# Altium schematic symbol library MCU.SchLib: 8 symbols
Pins are listed as number, name and electrical type; pins without a type are passive.

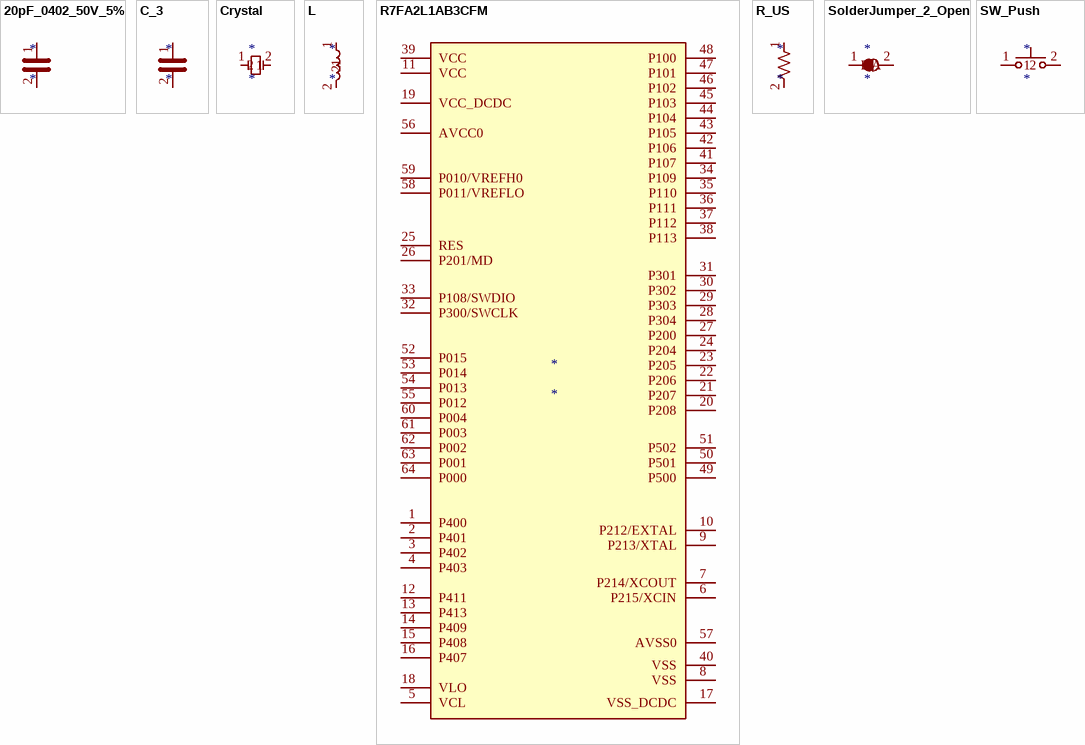
[diagram p0: symbols 20pF_0402_50V_5% to SW_Push]

## 20pF_0402_50V_5%
designator *
pins: 1, 2

## C_3
designator *
pins: 1, 2

## Crystal
designator *
pins: 1, 2

## L
designator *
pins: 1, 2

## R7FA2L1AB3CFM
designator *
pins: 1 P400, 2 P401, 3 P402, 4 P403, 5 VCL, 6 P215/XCIN, 7 P214/XCOUT, 8 VSS, 9 P213/XTAL, 10 P212/EXTAL, 11 VCC, 12 P411, 13 P413, 14 P409, 15 P408, 16 P407, 17 VSS_DCDC, 18 VLO, 19 VCC_DCDC, 20 P208, 21 P207, 22 P206, 23 P205, 24 P204, 25 RES, 26 P201/MD, 27 P200, 28 P304, 29 P303, 30 P302, 31 P301, 32 P300/SWCLK, 33 P108/SWDIO, 34 P109, 35 P110, 36 P111, 37 P112, 38 P113, 39 VCC, 40 VSS, 41 P107, 42 P106, 43 P105, 44 P104, 45 P103, 46 P102, 47 P101, 48 P100, 49 P500, 50 P501, 51 P502, 52 P015, 53 P014, 54 P013, 55 P012, 56 AVCC0, 57 AVSS0, 58 P011/VREFLO, 59 P010/VREFH0, 60 P004, 61 P003, 62 P002, 63 P001, 64 P000

## R_US
designator *
pins: 1, 2

## SolderJumper_2_Open
designator *
pins: 1 A, 2 B

## SW_Push
designator *
pins: 1, 2